# EAGLE library part SOFT_BUTTON_NC_NO (library SoftButton_NO_NC v1)
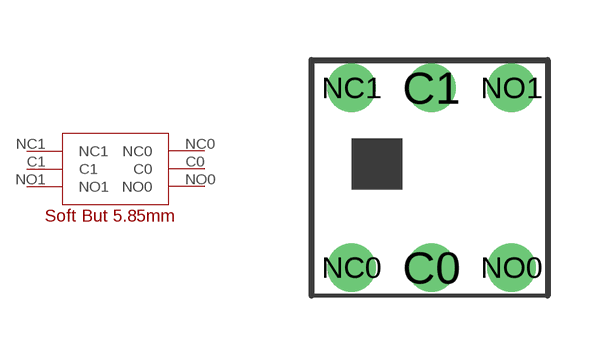
[diagram p0: symbol with the pads of SOFT_BUTTON_NC_NO; footprint SOFT_BUTTON_NC_NO]

Designator prefix -

## SOFT_BUTTON_NC_NO  [SOFT_BUTTON_NC_NO]
C0  C0
C1  C1
NC0  NC0
NC1  NC1
NO0  NO0
NO1  NO1

## Footprint SOFT_BUTTON_NC_NO (pad centres in mm)
drill 0.7: C0 2,-4.5; C1 2,0; NC0 0,-4.5; NC1 0,0; NO0 4,-4.5; NO1 4,0